# EAGLE library part TPS92020 (library CasaLibrary)
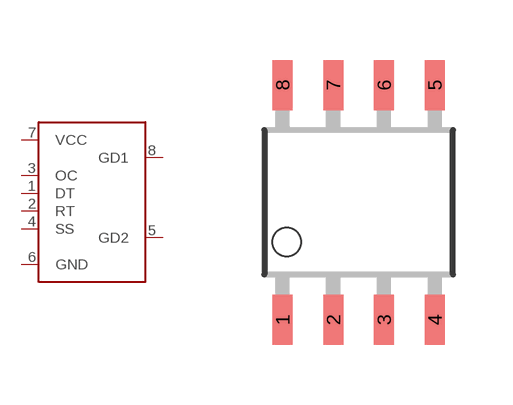
[diagram p10: symbol with the pads of SO08; footprint SO08]

Designator prefix -

## TPS92020  [SO08]
1  DT
2  RT
3  OC
4  SS
5  GD2
6  GND
7  VCC
8  GD1

## Footprint SO08 (pad centres in mm)
Small Outline Package
smd 0.5 x 1.25: 1 -1.905,-2.934; 2 -0.635,-2.934; 3 0.635,-2.934; 4 1.905,-2.934; 5 1.905,2.934; 6 0.635,2.934; 7 -0.635,2.934; 8 -1.905,2.934